# Altium integrated library TI Data Converters Digital to Analog Converter.IntLib: 1533 symbols (part 21 of 99)
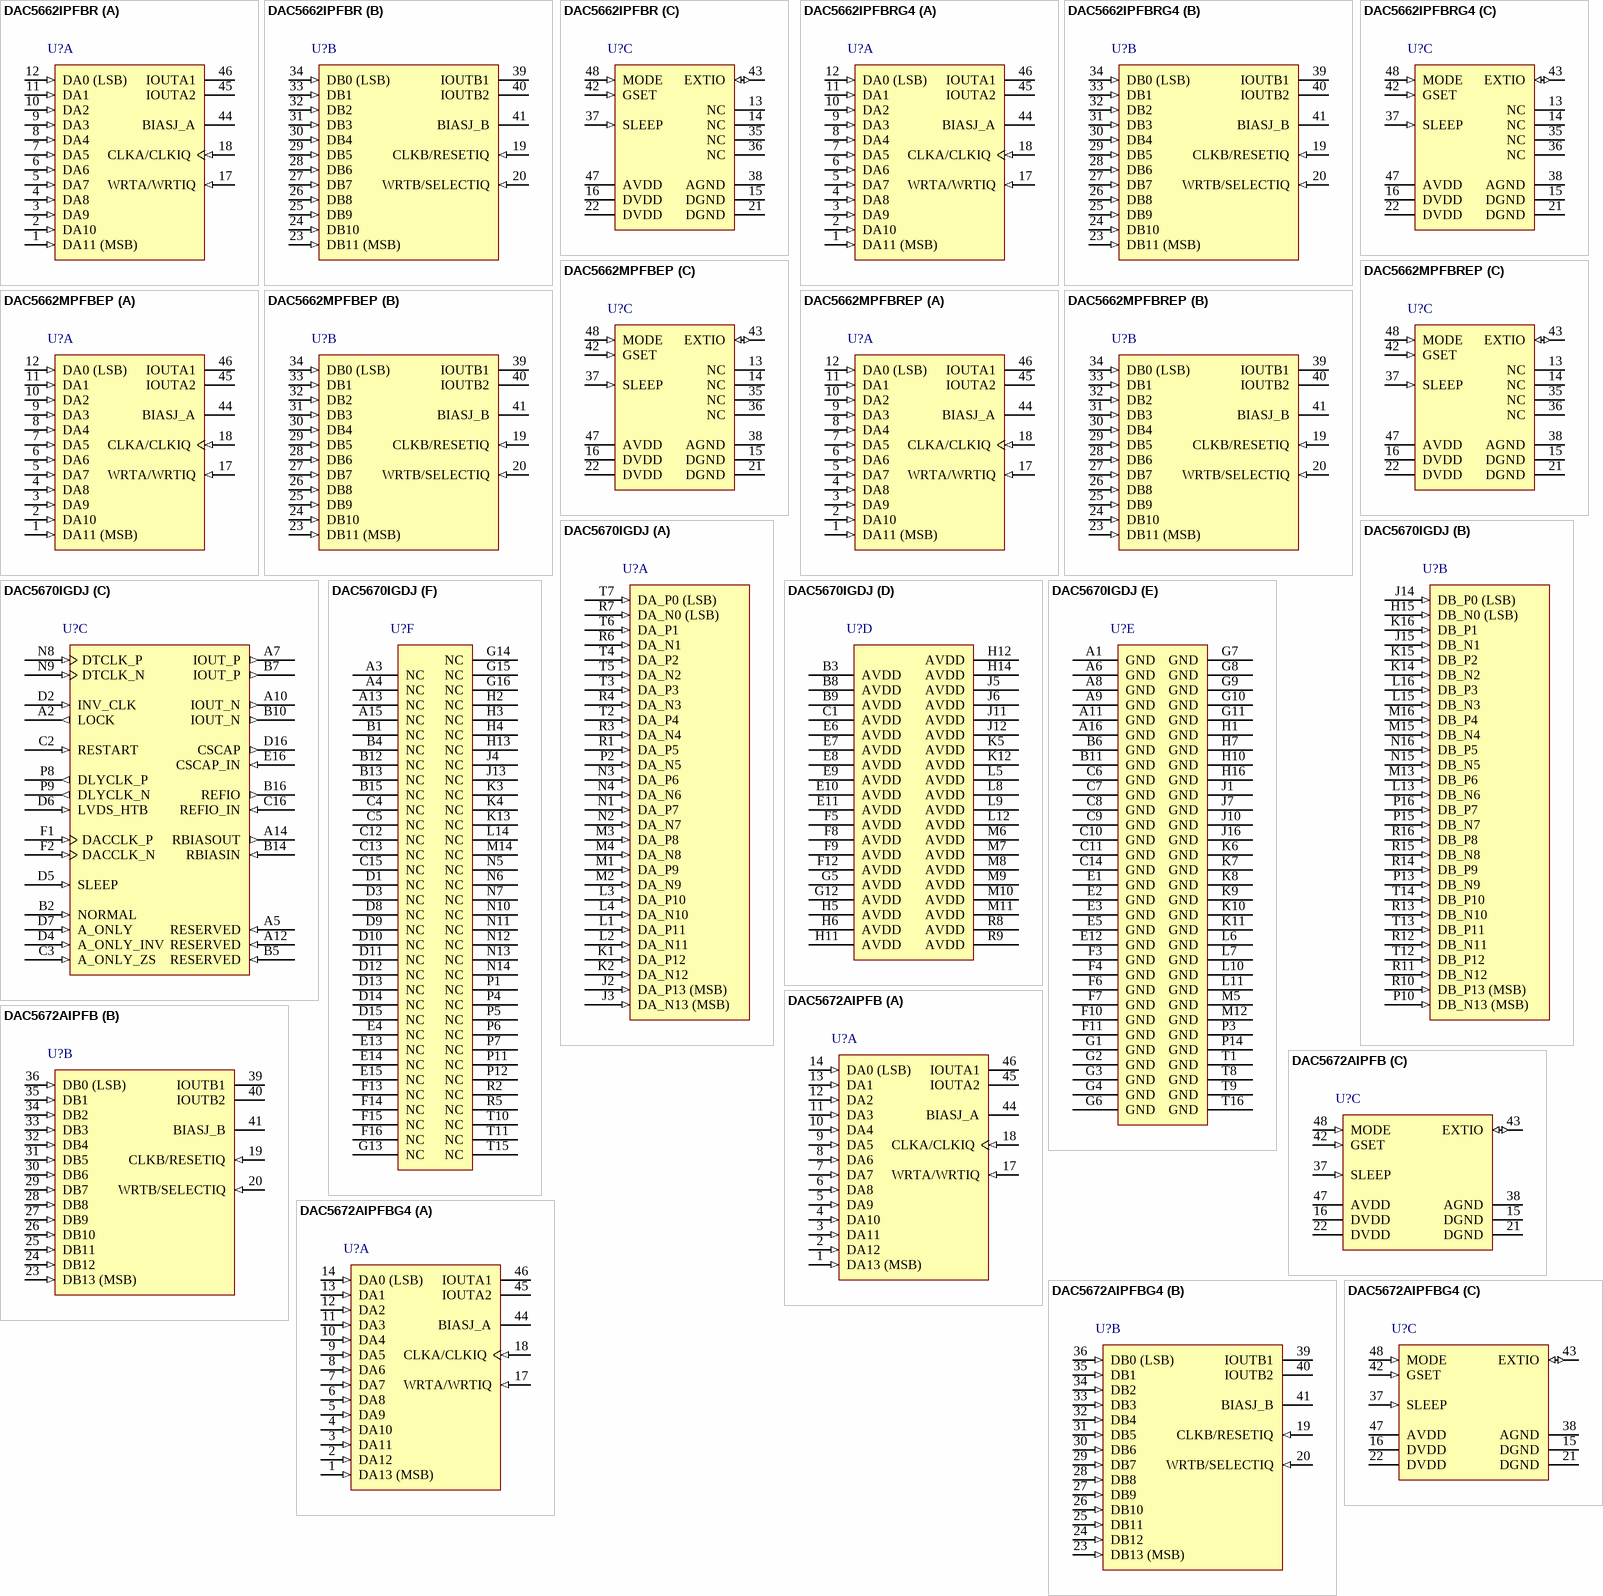
[diagram p93: symbols DAC5662IPFBR to DAC5672AIPFBG4]

## DAC5662MPFBEP
designator U?
Enhanced Product 12-Bit 200-MSPS Dual DAC, -55 to 125 degC, 48-pin QFP (PFB48), Green (RoHS & no Sb/Br); Manufacturer: Texas Instruments; PartNumber: DAC5662MPFBEP; DAC Channels: 2; Interface: Parallel CMOS; Power Consumption(Typ)(mW): 330; Resolution(Bits): 12; Settling Time(us): 0.02; SFDR(dB): 81; SNR(dB): 73; SubFamily: High Speed DAC (>10MSPS); DatasheetVersion: SGLS340A; PackageVersion: 4073176/B, 10/1996; PackageReference: PFB48; PackageDescription: 48-Pin Plastic Flat Pack, Body 7 x 7 mm, Pitch 0.5 mm; Supplier 1: Digi-Key; Supplier Part Number 1: 296-22559-ND; Supplier 2: Newark; Supplier Part Number 2: 79R7931; Supplier 3: Mouser; Supplier Part Number 3: 595-DAC5662MPFBEP; DNL(Max)(+/-LSB): 2; Eco-Plan: Green (RoHS & no Sb/Br); INL(Max)(+/-LSB): 2; Mounting Technology: Surface Mount; Code_JEDEC: MS-026; ComponentLink1Description: Manufacturer URL; ComponentLink1URL: http://www.ti.com/; ComponentLink2Description: Datasheet; ComponentLink2URL: http://www.ti.com/general/docs/lit/getliterature.tsp?genericPartNumber=DAC5662-EP&fileType=pdf; ComponentLink3Description: Package Specification; ComponentLink3URL: http://www.ti.com/lit/ml/mtqf019a/mtqf019a.pdf
footprint TI-PFB48_N (QFP, 48-Leads, Body 7x7mm, Pitch 0.5mm, IPC Medium Density)
footprint TI-PFB48_L (QFP, 48-Leads, Body 7x7mm, Pitch 0.5mm, IPC High Density)
footprint TI-PFB48_M (QFP, 48-Leads, Body 7x7mm, Pitch 0.5mm, IPC Low Density)
part A pins: 1 DA11 (MSB) (in) "Data port A. DA11 is MSB and DA0 is LSB. Internal pulldown.", 2 DA10 (in) "Data port A. DA11 is MSB and DA0 is LSB. Internal pulldown.", 3 DA9 (in) "Data port A. DA11 is MSB and DA0 is LSB. Internal pulldown.", 4 DA8 (in) "Data port A. DA11 is MSB and DA0 is LSB. Internal pulldown.", 5 DA7 (in) "Data port A. DA11 is MSB and DA0 is LSB. Internal pulldown.", 6 DA6 (in) "Data port A. DA11 is MSB and DA0 is LSB. Internal pulldown.", 7 DA5 (in) "Data port A. DA11 is MSB and DA0 is LSB. Internal pulldown.", 8 DA4 (in) "Data port A. DA11 is MSB and DA0 is LSB. Internal pulldown.", 9 DA3 (in) "Data port A. DA11 is MSB and DA0 is LSB. Internal pulldown.", 10 DA2 (in) "Data port A. DA11 is MSB and DA0 is LSB. Internal pulldown.", 11 DA1 (in) "Data port A. DA11 is MSB and DA0 is LSB. Internal pulldown.", 12 DA0 (LSB) (in) "Data port A. DA11 is MSB and DA0 is LSB. Internal pulldown.", 17 WRTA/WRTIQ (in) "Input write signal for PORT A (WRTIQ in interleaving mode)", 18 CLKA/CLKIQ (in) "Clock input for DACA, CLKIQ in interleaved mode", 44 BIASJ_A "Full-scale output current bias for DACA", 45 IOUTA2 (hiz) "DACA complementary current output. Full-scale with all bits of DA low.", 46 IOUTA1 (hiz) "DACA current output. Full-scale with all bits of DA high."
part B pins: 19 CLKB/RESETIQ (in) "Clock input for DACB, RESETIQ in interleaved mode", 20 WRTB/SELECTIQ (in) "Input write signal for PORT B (SELECTIQ in interleaving mode)", 23 DB11 (MSB) (in) "Data port B. DB11 is MSB and DB0 is LSB. Internal pulldown.", 24 DB10 (in) "Data port B. DB11 is MSB and DB0 is LSB. Internal pulldown.", 25 DB9 (in) "Data port B. DB11 is MSB and DB0 is LSB. Internal pulldown.", 26 DB8 (in) "Data port B. DB11 is MSB and DB0 is LSB. Internal pulldown.", 27 DB7 (in) "Data port B. DB11 is MSB and DB0 is LSB. Internal pulldown.", 28 DB6 (in) "Data port B. DB11 is MSB and DB0 is LSB. Internal pulldown.", 29 DB5 (in) "Data port B. DB11 is MSB and DB0 is LSB. Internal pulldown.", 30 DB4 (in) "Data port B. DB11 is MSB and DB0 is LSB. Internal pulldown.", 31 DB3 (in) "Data port B. DB11 is MSB and DB0 is LSB. Internal pulldown.", 32 DB2 (in) "Data port B. DB11 is MSB and DB0 is LSB. Internal pulldown.", 33 DB1 (in) "Data port B. DB11 is MSB and DB0 is LSB. Internal pulldown.", 34 DB0 (LSB) (in) "Data port B. DB11 is MSB and DB0 is LSB. Internal pulldown.", 39 IOUTB1 (hiz) "DACB current output. Full-scale with all bits of DB high.", 40 IOUTB2 (hiz) "DACB complementary current output. Full-scale with all bits of DB low.", 41 BIASJ_B "Full-scale output current bias for DACB"
part C pins: 13 NC "Factory use only. Pins must be connected to DGND or left unconnected.", 14 NC "Factory use only. Pins must be connected to DGND or left unconnected.", 15 DGND (power) "Digital ground", 16 DVDD (power) "Digital supply voltage", 21 DGND (power) "Digital ground", 22 DVDD (power) "Digital supply voltage", 35 NC "Factory use only. Pins must be connected to DGND or left unconnected.", 36 NC "Factory use only. Pins must be connected to DGND or left unconnected.", 37 SLEEP (in) "Sleep function control input: H - DAC in power-down mode, L - DAC in operating mode. Internal pulldown.", 38 AGND (power) "Analog ground", 42 GSET (in) "Gain-setting mode: H - 1 resistor, L - 2 resistors. Internal pullup.", 43 EXTIO (io) "Internal reference output (bypass with 0.1 uF to AGND) or external reference input", 47 AVDD (power) "Analog supply voltage", 48 MODE (in) "Mode Select: H - Dual Bus, L - Interleaved. Internal pullup."

## DAC5662MPFBREP
designator U?
Enhanced Product 12-Bit 200-MSPS Dual DAC, -55 to 125 degC, 48-pin QFP (PFB48), Green (RoHS & no Sb/Br); Manufacturer: Texas Instruments; PartNumber: DAC5662MPFBREP; DAC Channels: 2; Interface: Parallel CMOS; Power Consumption(Typ)(mW): 330; Resolution(Bits): 12; Settling Time(us): 0.02; SFDR(dB): 81; SNR(dB): 73; SubFamily: High Speed DAC (>10MSPS); DatasheetVersion: SGLS340A; PackageVersion: 4073176/B, 10/1996; PackageReference: PFB48; PackageDescription: 48-Pin Plastic Flat Pack, Body 7 x 7 mm, Pitch 0.5 mm; Supplier 1: Digi-Key; Supplier Part Number 1: 296-21304-2-ND; Supplier 2: Digi-Key; Supplier Part Number 2: 296-21304-1-ND; Supplier 3: Digi-Key; Supplier Part Number 3: 296-21304-6-ND; Supplier 4: Newark; Supplier Part Number 4: 79R7932; Supplier 5: Mouser; Supplier Part Number 5: 595-DAC5662MPFBREP; DNL(Max)(+/-LSB): 2; Eco-Plan: Green (RoHS & no Sb/Br); INL(Max)(+/-LSB): 2; Mounting Technology: Surface Mount; Code_JEDEC: MS-026; ComponentLink1Description: Manufacturer URL; ComponentLink1URL: http://www.ti.com/; ComponentLink2Description: Datasheet; ComponentLink2URL: http://www.ti.com/general/docs/lit/getliterature.tsp?genericPartNumber=DAC5662-EP&fileType=pdf; ComponentLink3Description: Package Specification; ComponentLink3URL: http://www.ti.com/lit/ml/mtqf019a/mtqf019a.pdf
footprint TI-PFB48_N (QFP, 48-Leads, Body 7x7mm, Pitch 0.5mm, IPC Medium Density)
footprint TI-PFB48_L (QFP, 48-Leads, Body 7x7mm, Pitch 0.5mm, IPC High Density)
footprint TI-PFB48_M (QFP, 48-Leads, Body 7x7mm, Pitch 0.5mm, IPC Low Density)
part A pins: 1 DA11 (MSB) (in) "Data port A. DA11 is MSB and DA0 is LSB. Internal pulldown.", 2 DA10 (in) "Data port A. DA11 is MSB and DA0 is LSB. Internal pulldown.", 3 DA9 (in) "Data port A. DA11 is MSB and DA0 is LSB. Internal pulldown.", 4 DA8 (in) "Data port A. DA11 is MSB and DA0 is LSB. Internal pulldown.", 5 DA7 (in) "Data port A. DA11 is MSB and DA0 is LSB. Internal pulldown.", 6 DA6 (in) "Data port A. DA11 is MSB and DA0 is LSB. Internal pulldown.", 7 DA5 (in) "Data port A. DA11 is MSB and DA0 is LSB. Internal pulldown.", 8 DA4 (in) "Data port A. DA11 is MSB and DA0 is LSB. Internal pulldown.", 9 DA3 (in) "Data port A. DA11 is MSB and DA0 is LSB. Internal pulldown.", 10 DA2 (in) "Data port A. DA11 is MSB and DA0 is LSB. Internal pulldown.", 11 DA1 (in) "Data port A. DA11 is MSB and DA0 is LSB. Internal pulldown.", 12 DA0 (LSB) (in) "Data port A. DA11 is MSB and DA0 is LSB. Internal pulldown.", 17 WRTA/WRTIQ (in) "Input write signal for PORT A (WRTIQ in interleaving mode)", 18 CLKA/CLKIQ (in) "Clock input for DACA, CLKIQ in interleaved mode", 44 BIASJ_A "Full-scale output current bias for DACA", 45 IOUTA2 (hiz) "DACA complementary current output. Full-scale with all bits of DA low.", 46 IOUTA1 (hiz) "DACA current output. Full-scale with all bits of DA high."
part B pins: 19 CLKB/RESETIQ (in) "Clock input for DACB, RESETIQ in interleaved mode", 20 WRTB/SELECTIQ (in) "Input write signal for PORT B (SELECTIQ in interleaving mode)", 23 DB11 (MSB) (in) "Data port B. DB11 is MSB and DB0 is LSB. Internal pulldown.", 24 DB10 (in) "Data port B. DB11 is MSB and DB0 is LSB. Internal pulldown.", 25 DB9 (in) "Data port B. DB11 is MSB and DB0 is LSB. Internal pulldown.", 26 DB8 (in) "Data port B. DB11 is MSB and DB0 is LSB. Internal pulldown.", 27 DB7 (in) "Data port B. DB11 is MSB and DB0 is LSB. Internal pulldown.", 28 DB6 (in) "Data port B. DB11 is MSB and DB0 is LSB. Internal pulldown.", 29 DB5 (in) "Data port B. DB11 is MSB and DB0 is LSB. Internal pulldown.", 30 DB4 (in) "Data port B. DB11 is MSB and DB0 is LSB. Internal pulldown.", 31 DB3 (in) "Data port B. DB11 is MSB and DB0 is LSB. Internal pulldown.", 32 DB2 (in) "Data port B. DB11 is MSB and DB0 is LSB. Internal pulldown.", 33 DB1 (in) "Data port B. DB11 is MSB and DB0 is LSB. Internal pulldown.", 34 DB0 (LSB) (in) "Data port B. DB11 is MSB and DB0 is LSB. Internal pulldown.", 39 IOUTB1 (hiz) "DACB current output. Full-scale with all bits of DB high.", 40 IOUTB2 (hiz) "DACB complementary current output. Full-scale with all bits of DB low.", 41 BIASJ_B "Full-scale output current bias for DACB"
part C pins: 13 NC "Factory use only. Pins must be connected to DGND or left unconnected.", 14 NC "Factory use only. Pins must be connected to DGND or left unconnected.", 15 DGND (power) "Digital ground", 16 DVDD (power) "Digital supply voltage", 21 DGND (power) "Digital ground", 22 DVDD (power) "Digital supply voltage", 35 NC "Factory use only. Pins must be connected to DGND or left unconnected.", 36 NC "Factory use only. Pins must be connected to DGND or left unconnected.", 37 SLEEP (in) "Sleep function control input: H - DAC in power-down mode, L - DAC in operating mode. Internal pulldown.", 38 AGND (power) "Analog ground", 42 GSET (in) "Gain-setting mode: H - 1 resistor, L - 2 resistors. Internal pullup.", 43 EXTIO (io) "Internal reference output (bypass with 0.1 uF to AGND) or external reference input", 47 AVDD (power) "Analog supply voltage", 48 MODE (in) "Mode Select: H - Dual Bus, L - Interleaved. Internal pullup."

## DAC5670IGDJ
designator U?
14-Bit, 2.4 GSPS Digital-to-Analog Convert, -40 to 85 degC, 252-pin BGA (GDJ252); Manufacturer: Texas Instruments; PartNumber: DAC5670IGDJ; DAC Channels: 1; DNL(Max)(+/-LSB): 1.75; Eco-Plan: Green (RoHS & no Sb/Br); INL(Max)(+/-LSB): 7.5; Packing: JEDEC TRAY (5+1); Power Consumption(Typ)(mW): 1800; Resolution(Bits): 14; Settling Time(us): 0.0035; SFDR(dB): 55; SNR(dB): 70; SubFamily: High Speed DAC (>10MSPS); DatasheetVersion: SGLS394E; PackageVersion: 4203479/C, 10/2003; PackageReference: GDJ252; PackageDescription: 252-Pin Plastic Ball Grid Array, Body 17 x 17 mm, Pitch 1 mm; Supplier 1: Digi-Key; Supplier Part Number 1: DAC5670IGDJ-ND; Supplier 2: Newark; Supplier Part Number 2: 72R5215; Supplier 3: Mouser; Supplier Part Number 3: 595-DAC5670IGDJ; Mounting Technology: Surface Mount; ComponentLink1Description: Manufacturer URL; ComponentLink1URL: http://www.ti.com/; ComponentLink2Description: Datasheet; ComponentLink2URL: http://www.ti.com/lit/ds/symlink/dac5670.pdf; ComponentLink3Description: Package Specification; ComponentLink3URL: http://www.ti.com/litv/pdf/mpbg222b
footprint TI-GDJ252 (BGA, 252-Balls, Body 17x17mm, Pitch 1mm)
part A pins: J2 DA_P13 (MSB) (in) "Port A data bit 13 (MSB)", J3 DA_N13 (MSB) (in) "Port A data bit 13 complement (MSB)", K1 DA_P12 (in) "Port A data bit 12", K2 DA_N12 (in) "Port A data bit 12 complement", L1 DA_P11 (in) "Port A data bit 11", L2 DA_N11 (in) "Port A data bit 11 complement", L3 DA_P10 (in) "Port A data bit 10", L4 DA_N10 (in) "Port A data bit 10 complement", M1 DA_P9 (in) "Port A data bit 9", M2 DA_N9 (in) "Port A data bit 9 complement", M3 DA_P8 (in) "Port A data bit 8", M4 DA_N8 (in) "Port A data bit 8 complement", N1 DA_P7 (in) "Port A data bit 7", N2 DA_N7 (in) "Port A data bit 7 complement", N3 DA_P6 (in) "Port A data bit 6", N4 DA_N6 (in) "Port A data bit 6 complement", P2 DA_N5 (in) "Port A data bit 5 complement", R1 DA_P5 (in) "Port A data bit 5", R3 DA_N4 (in) "Port A data bit 4 complement", R4 DA_N3 (in) "Port A data bit 3 complement", R6 DA_N1 (in) "Port A data bit 1 complement", R7 DA_N0 (LSB) (in) "Port A data bit 0 complement (LSB)", T2 DA_P4 (in) "Port A data bit 4", T3 DA_P3 (in) "Port A data bit 3", T4 DA_P2 (in) "Port A data bit 2", T5 DA_N2 (in) "Port A data bit 2 complement", T6 DA_P1 (in) "Port A data bit 1", T7 DA_P0 (LSB) (in) "Port A data bit 0 (LSB)"
part B pins: H15 DB_N0 (LSB) (in) "Port B data bit 0 complement (LSB)", J14 DB_P0 (LSB) (in) "Port B data bit 0 (LSB)", J15 DB_N1 (in) "Port B data bit 1 complement", K14 DB_N2 (in) "Port B data bit 2 complement", K15 DB_P2 (in) "Port B data bit 2", K16 DB_P1 (in) "Port B data bit 1", L13 DB_N6 (in) "Port B data bit 6 complement", L15 DB_N3 (in) "Port B data bit 3 complement", L16 DB_P3 (in) "Port B data bit 3", M13 DB_P6 (in) "Port B data bit 6", M15 DB_N4 (in) "Port B data bit 4 complement", M16 DB_P4 (in) "Port B data bit 4", N15 DB_N5 (in) "Port B data bit 5 complement", N16 DB_P5 (in) "Port B data bit 5", P10 DB_N13 (MSB) (in) "Port B data bit 13 complement (MSB)", P13 DB_N9 (in) "Port B data bit 9 complement", P15 DB_N7 (in) "Port B data bit 7 complement", P16 DB_P7 (in) "Port B data bit 7", R10 DB_P13 (MSB) (in) "Port B data bit 13 (MSB)", R11 DB_N12 (in) "Port B data bit 12 complement", R12 DB_N11 (in) "Port B data bit 11 complement", R13 DB_N10 (in) "Port B data bit 10 complement", R14 DB_P9 (in) "Port B data bit 9", R15 DB_N8 (in) "Port B data bit 8 complement", R16 DB_P8 (in) "Port B data bit 8", T12 DB_P12 (in) "Port B data bit 12", T13 DB_P11 (in) "Port B data bit 11", T14 DB_P10 (in) "Port B data bit 10"
part C pins: A2 LOCK (out) "DLL lock indicator, constant high when locked.", A5 RESERVED (in) "Factory use only, must be connected to GND.", A7 IOUT_P (out) "DAC current output. Full scale when all input bits are set 1.", A10 IOUT_N (out) "DAC complementary current output. Full scale when all input bits are 0.", A12 RESERVED (in) "Factory use only, must be connected to GND.", A14 RBIASOUT (out) "Rbias resistor current output", B2 NORMAL (in) "High for {a0,b0,a1,b1,a2,b2, …} normal mode", B5 RESERVED (in) "Factory use only, must be connected to GND.", B7 IOUT_P (out) "DAC current output. Full scale when all input bits are set 1.", B10 IOUT_N (out) "DAC complementary current output. Full scale when all input bits are 0.", B14 RBIASIN (in) "Rbias resistor sense input", B16 REFIO (out) "Bandgap reference output", C2 RESTART (in) "Resets DLL when high. Low for DLL operation. High for using external setup/hold timing.", C3 A_ONLY_ZS (in) "High for {a0,0,a1,0,a2,0, …} A_only_zs mode", C16 REFIO_IN (in) "Bandgap reference sense input", D2 INV_CLK (in) "Inverts the DLL target clocking relationship when high. Low for normal DLL operation. See DLL usage section.", D4 A_ONLY_INV (in) "High for {a0,-a0, a1,-a1,a2,-a2, ...} A_only_inv mode", D5 SLEEP (in) "Active high sleep.", D6 LVDS_HTB (in) "DLYCLK_P/N control; lvds mode when high, ht mode when low.", D7 A_ONLY (in) "High for {a0,a0,a1,a1,a2,a2, …} A_only mode", D16 CSCAP (out) "Current source bias voltage output", E16 CSCAP_IN (in) "Current source bias voltage sense input", F1 DACCLK_P (in) "External clock input; sample clock for the DAC", F2 DACCLK_N (in) "Complementary external clock input; sample clock for the DAC", N8 DTCLK_P (in) "Input data toggling reference bit", N9 DTCLK_N (in) "Input data toggling reference bit complementary signal", P8 DLYCLK_P (out) "DDR type data clock output to data source", P9 DLYCLK_N (out) "DDR type data clock output to data source complementary signal"
part D pins: B3 AVDD (power) "3.3 V Analog power supply", B8 AVDD (power) "3.3 V Analog power supply", B9 AVDD (power) "3.3 V Analog power supply", C1 AVDD (power) "3.3 V Analog power supply", E6 AVDD (power) "3.3 V Analog power supply", E7 AVDD (power) "3.3 V Analog power supply", E8 AVDD (power) "3.3 V Analog power supply", E9 AVDD (power) "3.3 V Analog power supply", E10 AVDD (power) "3.3 V Analog power supply", E11 AVDD (power) "3.3 V Analog power supply", F5 AVDD (power) "3.3 V Analog power supply", F8 AVDD (power) "3.3 V Analog power supply", F9 AVDD (power) "3.3 V Analog power supply", F12 AVDD (power) "3.3 V Analog power supply", G5 AVDD (power) "3.3 V Analog power supply", G12 AVDD (power) "3.3 V Analog power supply", H5 AVDD (power) "3.3 V Analog power supply", H6 AVDD (power) "3.3 V Analog power supply", H11 AVDD (power) "3.3 V Analog power supply", H12 AVDD (power) "3.3 V Analog power supply", H14 AVDD (power) "3.3 V Analog power supply", J5 AVDD (power) "3.3 V Analog power supply", J6 AVDD (power) "3.3 V Analog power supply", J11 AVDD (power) "3.3 V Analog power supply", J12 AVDD (power) "3.3 V Analog power supply", K5 AVDD (power) "3.3 V Analog power supply", K12 AVDD (power) "3.3 V Analog power supply", L5 AVDD (power) "3.3 V Analog power supply", L8 AVDD (power) "3.3 V Analog power supply", L9 AVDD (power) "3.3 V Analog power supply", L12 AVDD (power) "3.3 V Analog power supply", M6 AVDD (power) "3.3 V Analog power supply", M7 AVDD (power) "3.3 V Analog power supply", M8 AVDD (power) "3.3 V Analog power supply", M9 AVDD (power) "3.3 V Analog power supply", M10 AVDD (power) "3.3 V Analog power supply", M11 AVDD (power) "3.3 V Analog power supply", R8 AVDD (power) "3.3 V Analog power supply", R9 AVDD (power) "3.3 V Analog power supply"
part E pins: A1 GND (power) "Ground", A6 GND (power) "Ground", A8 GND (power) "Ground", A9 GND (power) "Ground", A11 GND (power) "Ground", A16 GND (power) "Ground", B6 GND (power) "Ground", B11 GND (power) "Ground", C6 GND (power) "Ground", C7 GND (power) "Ground", C8 GND (power) "Ground", C9 GND (power) "Ground", C10 GND (power) "Ground", C11 GND (power) "Ground", C14 GND (power) "Ground", E1 GND (power) "Ground", E2 GND (power) "Ground", E3 GND (power) "Ground", E5 GND (power) "Ground", E12 GND (power) "Ground", F3 GND (power) "Ground", F4 GND (power) "Ground", F6 GND (power) "Ground", F7 GND (power) "Ground", F10 GND (power) "Ground", F11 GND (power) "Ground", G1 GND (power) "Ground", G2 GND (power) "Ground", G3 GND (power) "Ground", G4 GND (power) "Ground", G6 GND (power) "Ground", G7 GND (power) "Ground", G8 GND (power) "Ground", G9 GND (power) "Ground", G10 GND (power) "Ground", G11 GND (power) "Ground", H1 GND (power) "Ground", H7 GND (power) "Ground", H10 GND (power) "Ground", H16 GND (power) "Ground", J1 GND (power) "Ground", J7 GND (power) "Ground", J10 GND (power) "Ground", J16 GND (power) "Ground", K6 GND (power) "Ground", K7 GND (power) "Ground", K8 GND (power) "Ground", K9 GND (power) "Ground", K10 GND (power) "Ground", K11 GND (power) "Ground", L6 GND (power) "Ground", L7 GND (power) "Ground", L10 GND (power) "Ground", L11 GND (power) "Ground", M5 GND (power) "Ground", M12 GND (power) "Ground", P3 GND (power) "Ground", P14 GND (power) "Ground", T1 GND (power) "Ground", T8 GND (power) "Ground", T9 GND (power) "Ground", T16 GND (power) "Ground"
part F pins: A3 NC "No internal connection. These balls can be connected to GND (if desired), or left open.", A4 NC "No internal connection. These balls can be connected to GND (if desired), or left open.", A13 NC "No internal connection. These balls can be connected to GND (if desired), or left open.", A15 NC "No internal connection. These balls can be connected to GND (if desired), or left open.", B1 NC "No internal connection. These balls can be connected to GND (if desired), or left open.", B4 NC "No internal connection. These balls can be connected to GND (if desired), or left open.", B12 NC "Factory use only, must be left unconnected.", B13 NC "No internal connection. These balls can be connected to GND (if desired), or left open.", B15 NC "No internal connection. These balls can be connected to GND (if desired), or left open.", C4 NC "No internal connection. These balls can be connected to GND (if desired), or left open.", C5 NC "Factory use only, must be left unconnected.", C12 NC "No internal connection. These balls can be connected to GND (if desired), or left open.", C13 NC "No internal connection. These balls can be connected to GND (if desired), or left open.", C15 NC "No internal connection. These balls can be connected to GND (if desired), or left open.", D1 NC "Factory use only, must be left unconnected.", D3 NC "No internal connection. These balls can be connected to GND (if desired), or left open.", D8 NC "No internal connection. These balls can be connected to GND (if desired), or left open.", D9 NC "No internal connection. These balls can be connected to GND (if desired), or left open.", D10 NC "No internal connection. These balls can be connected to GND (if desired), or left open.", D11 NC "No internal connection. These balls can be connected to GND (if desired), or left open.", D12 NC "No internal connection. These balls can be connected to GND (if desired), or left open.", D13 NC "No internal connection. These balls can be connected to GND (if desired), or left open.", D14 NC "No internal connection. These balls can be connected to GND (if desired), or left open.", D15 NC "No internal connection. These balls can be connected to GND (if desired), or left open.", E4 NC "No internal connection. These balls can be connected to GND (if desired), or left open.", E13 NC "No internal connection. These balls can be connected to GND (if desired), or left open.", E14 NC "No internal connection. These balls can be connected to GND (if desired), or left open.", E15 NC "No internal connection. These balls can be connected to GND (if desired), or left open.", F13 NC "No internal connection. These balls can be connected to GND (if desired), or left open.", F14 NC "No internal connection. These balls can be connected to GND (if desired), or left open.", F15 NC "No internal connection. These balls can be connected to GND (if desired), or left open.", F16 NC "No internal connection. These balls can be connected to GND (if desired), or left open.", G13 NC "No internal connection. These balls can be connected to GND (if desired), or left open.", G14 NC "No internal connection. These balls can be connected to GND (if desired), or left open.", G15 NC "No internal connection. These balls can be connected to GND (if desired), or left open.", G16 NC "No internal connection. These balls can be connected to GND (if desired), or left open.", H2 NC "No internal connection. These balls can be connected to GND (if desired), or left open.", H3 NC "No internal connection. These balls can be connected to GND (if desired), or left open.", H4 NC "No internal connection. These balls can be connected to GND (if desired), or left open.", H13 NC "No internal connection. These balls can be connected to GND (if desired), or left open.", J4 NC "No internal connection. These balls can be connected to GND (if desired), or left open.", J13 NC "No internal connection. These balls can be connected to GND (if desired), or left open.", K3 NC "No internal connection. These balls can be connected to GND (if desired), or left open.", K4 NC "No internal connection. These balls can be connected to GND (if desired), or left open.", K13 NC "No internal connection. These balls can be connected to GND (if desired), or left open.", L14 NC "No internal connection. These balls can be connected to GND (if desired), or left open.", M14 NC "No internal connection. These balls can be connected to GND (if desired), or left open.", N5 NC "No internal connection. These balls can be connected to GND (if desired), or left open.", N6 NC "No internal connection. These balls can be connected to GND (if desired), or left open.", N7 NC "No internal connection. These balls can be connected to GND (if desired), or left open.", N10 NC "No internal connection. These balls can be connected to GND (if desired), or left open.", N11 NC "No internal connection. These balls can be connected to GND (if desired), or left open.", N12 NC "No internal connection. These balls can be connected to GND (if desired), or left open.", N13 NC "No internal connection. These balls can be connected to GND (if desired), or left open.", N14 NC "No internal connection. These balls can be connected to GND (if desired), or left open.", P1 NC "No internal connection. These balls can be connected to GND (if desired), or left open.", P4 NC "No internal connection. These balls can be connected to GND (if desired), or left open.", P5 NC "No internal connection. These balls can be connected to GND (if desired), or left open.", P6 NC "No internal connection. These balls can be connected to GND (if desired), or left open.", P7 NC "No internal connection. These balls can be connected to GND (if desired), or left open.", P11 NC "No internal connection. These balls can be connected to GND (if desired), or left open.", P12 NC "No internal connection. These balls can be connected to GND (if desired), or left open.", R2 NC "No internal connection. These balls can be connected to GND (if desired), or left open.", R5 NC "No internal connection. These balls can be connected to GND (if desired), or left open.", T10 NC "No internal connection. These balls can be connected to GND (if desired), or left open.", T11 NC "No internal connection. These balls can be connected to GND (if desired), or left open.", T15 NC "No internal connection. These balls can be connected to GND (if desired), or left open."

## DAC5672AIPFB
designator U?
14-Bit 275 MSPS Dual Digital to Analog Converter, -40 to 85 degC, 48-pin QFP (PFB48), Green (RoHS & no Sb/Br); Manufacturer: Texas Instruments; PartNumber: DAC5672AIPFB; DAC Channels: 2; DNL(Max)(+/-LSB): 3; INL(Max)(+/-LSB): 4; Interface: Parallel CMOS; Power Consumption(Typ)(mW): 330; Resolution(Bits): 14; Settling Time(us): 0.02; SFDR(dB): 84; SNR(dB): 77; SubFamily: High Speed DAC (>10MSPS); DatasheetVersion: SLAS528A; PackageVersion: 4073176/B, 10/1996; PackageReference: PFB48; PackageDescription: 48-Pin Plastic Flat Pack, Body 7 x 7 mm, Pitch 0.5 mm; Supplier 1: Digi-Key; Supplier Part Number 1: 296-22616-ND; Supplier 2: Newark; Supplier Part Number 2: 58M0323; Supplier 3: Mouser; Supplier Part Number 3: 595-DAC5672AIPFB; Eco-Plan: Green (RoHS & no Sb/Br); Mounting Technology: Surface Mount; Code_JEDEC: MS-026; ComponentLink1Description: Manufacturer URL; ComponentLink1URL: http://www.ti.com/; ComponentLink2Description: Datasheet; ComponentLink2URL: http://www.ti.com/general/docs/lit/getliterature.tsp?genericPartNumber=DAC5672A&fileType=pdf; ComponentLink3Description: Package Specification; ComponentLink3URL: http://www.ti.com/lit/ml/mtqf019a/mtqf019a.pdf
footprint TI-PFB48_N (QFP, 48-Leads, Body 7x7mm, Pitch 0.5mm, IPC Medium Density)
footprint TI-PFB48_L (QFP, 48-Leads, Body 7x7mm, Pitch 0.5mm, IPC High Density)
footprint TI-PFB48_M (QFP, 48-Leads, Body 7x7mm, Pitch 0.5mm, IPC Low Density)
part A pins: 1 DA13 (MSB) (in) "Data port A. DA13 is MSB and DA0 is LSB. Internal pulldown.", 2 DA12 (in) "Data port A. DA13 is MSB and DA0 is LSB. Internal pulldown.", 3 DA11 (in) "Data port A. DA13 is MSB and DA0 is LSB. Internal pulldown.", 4 DA10 (in) "Data port A. DA13 is MSB and DA0 is LSB. Internal pulldown.", 5 DA9 (in) "Data port A. DA13 is MSB and DA0 is LSB. Internal pulldown.", 6 DA8 (in) "Data port A. DA13 is MSB and DA0 is LSB. Internal pulldown.", 7 DA7 (in) "Data port A. DA13 is MSB and DA0 is LSB. Internal pulldown.", 8 DA6 (in) "Data port A. DA13 is MSB and DA0 is LSB. Internal pulldown.", 9 DA5 (in) "Data port A. DA13 is MSB and DA0 is LSB. Internal pulldown.", 10 DA4 (in) "Data port A. DA13 is MSB and DA0 is LSB. Internal pulldown.", 11 DA3 (in) "Data port A. DA13 is MSB and DA0 is LSB. Internal pulldown.", 12 DA2 (in) "Data port A. DA13 is MSB and DA0 is LSB. Internal pulldown.", 13 DA1 (in) "Data port A. DA13 is MSB and DA0 is LSB. Internal pulldown.", 14 DA0 (LSB) (in) "Data port A. DA13 is MSB and DA0 is LSB. Internal pulldown.", 17 WRTA/WRTIQ (in) "Input write signal for PORT A (WRTIQ in interleaving mode)", 18 CLKA/CLKIQ (in) "Clock input for DACA, CLKIQ in interleaved mode", 44 BIASJ_A "Full-scale output current bias for DACA", 45 IOUTA2 (hiz) "DACA complementary current output. Full-scale with all bits of DA low.", 46 IOUTA1 (hiz) "DACA current output. Full-scale with all bits of DA high."
part B pins: 19 CLKB/RESETIQ (in) "Clock input for DACB, RESETIQ in interleaved mode", 20 WRTB/SELECTIQ (in) "Input write signal for PORT B (SELECTIQ in interleaving mode)", 23 DB13 (MSB) (in) "Data port B. DB13 is MSB and DB0 is LSB. Internal pulldown.", 24 DB12 (in) "Data port B. DB13 is MSB and DB0 is LSB. Internal pulldown.", 25 DB11 (in) "Data port B. DB13 is MSB and DB0 is LSB. Internal pulldown.", 26 DB10 (in) "Data port B. DB13 is MSB and DB0 is LSB. Internal pulldown.", 27 DB9 (in) "Data port B. DB13 is MSB and DB0 is LSB. Internal pulldown.", 28 DB8 (in) "Data port B. DB13 is MSB and DB0 is LSB. Internal pulldown.", 29 DB7 (in) "Data port B. DB13 is MSB and DB0 is LSB. Internal pulldown.", 30 DB6 (in) "Data port B. DB13 is MSB and DB0 is LSB. Internal pulldown.", 31 DB5 (in) "Data port B. DB13 is MSB and DB0 is LSB. Internal pulldown.", 32 DB4 (in) "Data port B. DB13 is MSB and DB0 is LSB. Internal pulldown.", 33 DB3 (in) "Data port B. DB13 is MSB and DB0 is LSB. Internal pulldown.", 34 DB2 (in) "Data port B. DB13 is MSB and DB0 is LSB. Internal pulldown.", 35 DB1 (in) "Data port B. DB13 is MSB and DB0 is LSB. Internal pulldown.", 36 DB0 (LSB) (in) "Data port B. DB13 is MSB and DB0 is LSB. Internal pulldown.", 39 IOUTB1 (hiz) "DACB current output. Full-scale with all bits of DB high.", 40 IOUTB2 (hiz) "DACB complementary current output. Full-scale with all bits of DB low.", 41 BIASJ_B "Full-scale output current bias for DACB"
part C pins: 15 DGND (power) "Digital ground", 16 DVDD (power) "Digital supply voltage", 21 DGND (power) "Digital ground", 22 DVDD (power) "Digital supply voltage", 37 SLEEP (in) "Sleep function control input: H - DAC in power-down mode, L - DAC in operating mode. Internal pulldown.", 38 AGND (power) "Analog ground", 42 GSET (in) "Gain-setting mode: H - 1 resistor, L - 2 resistors. Internal pullup.", 43 EXTIO (io) "Internal reference output (bypass with 0.1 uF to AGND) or external reference input", 47 AVDD (power) "Analog supply voltage", 48 MODE (in) "Mode Select: H - Dual Bus, L - Interleaved. Internal pullup."

## DAC5672AIPFBG4
designator U?
14-Bit 275 MSPS Dual Digital to Analog Converter, -40 to 85 degC, 48-pin QFP (PFB48), Green (RoHS & no Sb/Br); Manufacturer: Texas Instruments; PartNumber: DAC5672AIPFBG4; DAC Channels: 2; DNL(Max)(+/-LSB): 3; INL(Max)(+/-LSB): 4; Interface: Parallel CMOS; Power Consumption(Typ)(mW): 330; Resolution(Bits): 14; Settling Time(us): 0.02; SFDR(dB): 84; SNR(dB): 77; SubFamily: High Speed DAC (>10MSPS); DatasheetVersion: SLAS528A; PackageVersion: 4073176/B, 10/1996; PackageReference: PFB48; PackageDescription: 48-Pin Plastic Flat Pack, Body 7 x 7 mm, Pitch 0.5 mm; Supplier 1: Digi-Key; Supplier Part Number 1: DAC5672AIPFBG4-ND; Supplier 2: Mouser; Supplier Part Number 2: 595-DAC5672AIPFBG4; Eco-Plan: Green (RoHS & no Sb/Br); Mounting Technology: Surface Mount; Code_JEDEC: MS-026; ComponentLink1Description: Manufacturer URL; ComponentLink1URL: http://www.ti.com/; ComponentLink2Description: Datasheet; ComponentLink2URL: http://www.ti.com/general/docs/lit/getliterature.tsp?genericPartNumber=DAC5672A&fileType=pdf; ComponentLink3Description: Package Specification; ComponentLink3URL: http://www.ti.com/lit/ml/mtqf019a/mtqf019a.pdf
footprint TI-PFB48_N (QFP, 48-Leads, Body 7x7mm, Pitch 0.5mm, IPC Medium Density)
footprint TI-PFB48_L (QFP, 48-Leads, Body 7x7mm, Pitch 0.5mm, IPC High Density)
footprint TI-PFB48_M (QFP, 48-Leads, Body 7x7mm, Pitch 0.5mm, IPC Low Density)
part A pins: 1 DA13 (MSB) (in) "Data port A. DA13 is MSB and DA0 is LSB. Internal pulldown.", 2 DA12 (in) "Data port A. DA13 is MSB and DA0 is LSB. Internal pulldown.", 3 DA11 (in) "Data port A. DA13 is MSB and DA0 is LSB. Internal pulldown.", 4 DA10 (in) "Data port A. DA13 is MSB and DA0 is LSB. Internal pulldown.", 5 DA9 (in) "Data port A. DA13 is MSB and DA0 is LSB. Internal pulldown.", 6 DA8 (in) "Data port A. DA13 is MSB and DA0 is LSB. Internal pulldown.", 7 DA7 (in) "Data port A. DA13 is MSB and DA0 is LSB. Internal pulldown.", 8 DA6 (in) "Data port A. DA13 is MSB and DA0 is LSB. Internal pulldown.", 9 DA5 (in) "Data port A. DA13 is MSB and DA0 is LSB. Internal pulldown.", 10 DA4 (in) "Data port A. DA13 is MSB and DA0 is LSB. Internal pulldown.", 11 DA3 (in) "Data port A. DA13 is MSB and DA0 is LSB. Internal pulldown.", 12 DA2 (in) "Data port A. DA13 is MSB and DA0 is LSB. Internal pulldown.", 13 DA1 (in) "Data port A. DA13 is MSB and DA0 is LSB. Internal pulldown.", 14 DA0 (LSB) (in) "Data port A. DA13 is MSB and DA0 is LSB. Internal pulldown.", 17 WRTA/WRTIQ (in) "Input write signal for PORT A (WRTIQ in interleaving mode)", 18 CLKA/CLKIQ (in) "Clock input for DACA, CLKIQ in interleaved mode", 44 BIASJ_A "Full-scale output current bias for DACA", 45 IOUTA2 (hiz) "DACA complementary current output. Full-scale with all bits of DA low.", 46 IOUTA1 (hiz) "DACA current output. Full-scale with all bits of DA high."
part B pins: 19 CLKB/RESETIQ (in) "Clock input for DACB, RESETIQ in interleaved mode", 20 WRTB/SELECTIQ (in) "Input write signal for PORT B (SELECTIQ in interleaving mode)", 23 DB13 (MSB) (in) "Data port B. DB13 is MSB and DB0 is LSB. Internal pulldown.", 24 DB12 (in) "Data port B. DB13 is MSB and DB0 is LSB. Internal pulldown.", 25 DB11 (in) "Data port B. DB13 is MSB and DB0 is LSB. Internal pulldown.", 26 DB10 (in) "Data port B. DB13 is MSB and DB0 is LSB. Internal pulldown.", 27 DB9 (in) "Data port B. DB13 is MSB and DB0 is LSB. Internal pulldown.", 28 DB8 (in) "Data port B. DB13 is MSB and DB0 is LSB. Internal pulldown.", 29 DB7 (in) "Data port B. DB13 is MSB and DB0 is LSB. Internal pulldown.", 30 DB6 (in) "Data port B. DB13 is MSB and DB0 is LSB. Internal pulldown.", 31 DB5 (in) "Data port B. DB13 is MSB and DB0 is LSB. Internal pulldown.", 32 DB4 (in) "Data port B. DB13 is MSB and DB0 is LSB. Internal pulldown.", 33 DB3 (in) "Data port B. DB13 is MSB and DB0 is LSB. Internal pulldown.", 34 DB2 (in) "Data port B. DB13 is MSB and DB0 is LSB. Internal pulldown.", 35 DB1 (in) "Data port B. DB13 is MSB and DB0 is LSB. Internal pulldown.", 36 DB0 (LSB) (in) "Data port B. DB13 is MSB and DB0 is LSB. Internal pulldown.", 39 IOUTB1 (hiz) "DACB current output. Full-scale with all bits of DB high.", 40 IOUTB2 (hiz) "DACB complementary current output. Full-scale with all bits of DB low.", 41 BIASJ_B "Full-scale output current bias for DACB"
part C pins: 15 DGND (power) "Digital ground", 16 DVDD (power) "Digital supply voltage", 21 DGND (power) "Digital ground", 22 DVDD (power) "Digital supply voltage", 37 SLEEP (in) "Sleep function control input: H - DAC in power-down mode, L - DAC in operating mode. Internal pulldown.", 38 AGND (power) "Analog ground", 42 GSET (in) "Gain-setting mode: H - 1 resistor, L - 2 resistors. Internal pullup.", 43 EXTIO (io) "Internal reference output (bypass with 0.1 uF to AGND) or external reference input", 47 AVDD (power) "Analog supply voltage", 48 MODE (in) "Mode Select: H - Dual Bus, L - Interleaved. Internal pullup."

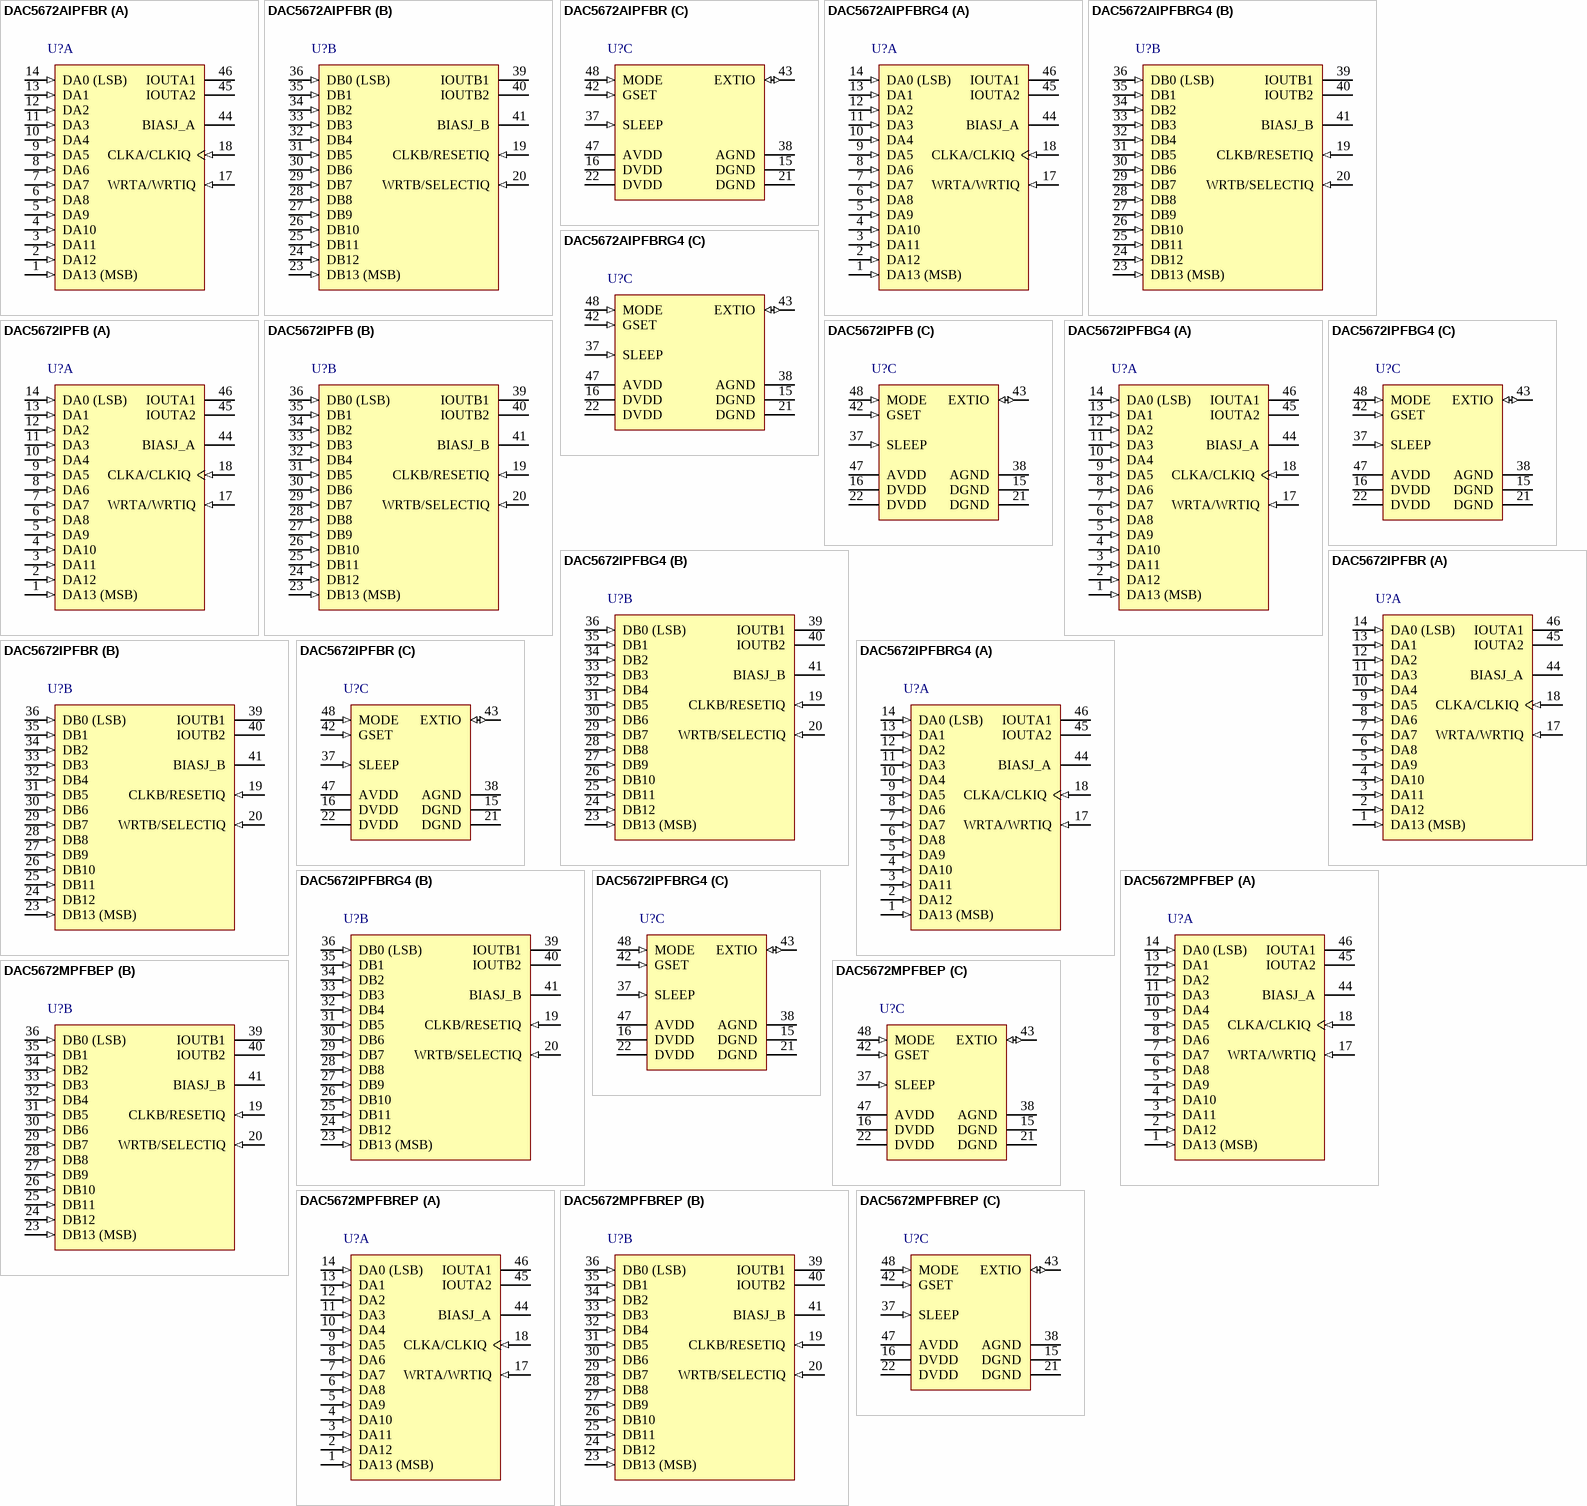
[diagram p17: symbols DAC5672AIPFBR to DAC5672MPFBREP]

## DAC5672AIPFBR
designator U?
14-Bit 275 MSPS Dual Digital to Analog Converter, -40 to 85 degC, 48-pin QFP (PFB48), Green (RoHS & no Sb/Br); Manufacturer: Texas Instruments; PartNumber: DAC5672AIPFBR; DAC Channels: 2; DNL(Max)(+/-LSB): 3; INL(Max)(+/-LSB): 4; Interface: Parallel CMOS; Power Consumption(Typ)(mW): 330; Resolution(Bits): 14; Settling Time(us): 0.02; SFDR(dB): 84; SNR(dB): 77; SubFamily: High Speed DAC (>10MSPS); DatasheetVersion: SLAS528A; PackageVersion: 4073176/B, 10/1996; PackageReference: PFB48; PackageDescription: 48-Pin Plastic Flat Pack, Body 7 x 7 mm, Pitch 0.5 mm; Supplier 1: Digi-Key; Supplier Part Number 1: DAC5672AIPFBR-ND; Supplier 2: Newark; Supplier Part Number 2: 58M0324; Supplier 3: Mouser; Supplier Part Number 3: 595-DAC5672AIPFBR; Eco-Plan: Green (RoHS & no Sb/Br); Mounting Technology: Surface Mount; Code_JEDEC: MS-026; ComponentLink1Description: Manufacturer URL; ComponentLink1URL: http://www.ti.com/; ComponentLink2Description: Datasheet; ComponentLink2URL: http://www.ti.com/general/docs/lit/getliterature.tsp?genericPartNumber=DAC5672A&fileType=pdf; ComponentLink3Description: Package Specification; ComponentLink3URL: http://www.ti.com/lit/ml/mtqf019a/mtqf019a.pdf
footprint TI-PFB48_N (QFP, 48-Leads, Body 7x7mm, Pitch 0.5mm, IPC Medium Density)
footprint TI-PFB48_L (QFP, 48-Leads, Body 7x7mm, Pitch 0.5mm, IPC High Density)
footprint TI-PFB48_M (QFP, 48-Leads, Body 7x7mm, Pitch 0.5mm, IPC Low Density)
part A pins: 1 DA13 (MSB) (in) "Data port A. DA13 is MSB and DA0 is LSB. Internal pulldown.", 2 DA12 (in) "Data port A. DA13 is MSB and DA0 is LSB. Internal pulldown.", 3 DA11 (in) "Data port A. DA13 is MSB and DA0 is LSB. Internal pulldown.", 4 DA10 (in) "Data port A. DA13 is MSB and DA0 is LSB. Internal pulldown.", 5 DA9 (in) "Data port A. DA13 is MSB and DA0 is LSB. Internal pulldown.", 6 DA8 (in) "Data port A. DA13 is MSB and DA0 is LSB. Internal pulldown.", 7 DA7 (in) "Data port A. DA13 is MSB and DA0 is LSB. Internal pulldown.", 8 DA6 (in) "Data port A. DA13 is MSB and DA0 is LSB. Internal pulldown.", 9 DA5 (in) "Data port A. DA13 is MSB and DA0 is LSB. Internal pulldown.", 10 DA4 (in) "Data port A. DA13 is MSB and DA0 is LSB. Internal pulldown.", 11 DA3 (in) "Data port A. DA13 is MSB and DA0 is LSB. Internal pulldown.", 12 DA2 (in) "Data port A. DA13 is MSB and DA0 is LSB. Internal pulldown.", 13 DA1 (in) "Data port A. DA13 is MSB and DA0 is LSB. Internal pulldown.", 14 DA0 (LSB) (in) "Data port A. DA13 is MSB and DA0 is LSB. Internal pulldown.", 17 WRTA/WRTIQ (in) "Input write signal for PORT A (WRTIQ in interleaving mode)", 18 CLKA/CLKIQ (in) "Clock input for DACA, CLKIQ in interleaved mode", 44 BIASJ_A "Full-scale output current bias for DACA", 45 IOUTA2 (hiz) "DACA complementary current output. Full-scale with all bits of DA low.", 46 IOUTA1 (hiz) "DACA current output. Full-scale with all bits of DA high."
part B pins: 19 CLKB/RESETIQ (in) "Clock input for DACB, RESETIQ in interleaved mode", 20 WRTB/SELECTIQ (in) "Input write signal for PORT B (SELECTIQ in interleaving mode)", 23 DB13 (MSB) (in) "Data port B. DB13 is MSB and DB0 is LSB. Internal pulldown.", 24 DB12 (in) "Data port B. DB13 is MSB and DB0 is LSB. Internal pulldown.", 25 DB11 (in) "Data port B. DB13 is MSB and DB0 is LSB. Internal pulldown.", 26 DB10 (in) "Data port B. DB13 is MSB and DB0 is LSB. Internal pulldown.", 27 DB9 (in) "Data port B. DB13 is MSB and DB0 is LSB. Internal pulldown.", 28 DB8 (in) "Data port B. DB13 is MSB and DB0 is LSB. Internal pulldown.", 29 DB7 (in) "Data port B. DB13 is MSB and DB0 is LSB. Internal pulldown.", 30 DB6 (in) "Data port B. DB13 is MSB and DB0 is LSB. Internal pulldown.", 31 DB5 (in) "Data port B. DB13 is MSB and DB0 is LSB. Internal pulldown.", 32 DB4 (in) "Data port B. DB13 is MSB and DB0 is LSB. Internal pulldown.", 33 DB3 (in) "Data port B. DB13 is MSB and DB0 is LSB. Internal pulldown.", 34 DB2 (in) "Data port B. DB13 is MSB and DB0 is LSB. Internal pulldown.", 35 DB1 (in) "Data port B. DB13 is MSB and DB0 is LSB. Internal pulldown.", 36 DB0 (LSB) (in) "Data port B. DB13 is MSB and DB0 is LSB. Internal pulldown.", 39 IOUTB1 (hiz) "DACB current output. Full-scale with all bits of DB high.", 40 IOUTB2 (hiz) "DACB complementary current output. Full-scale with all bits of DB low.", 41 BIASJ_B "Full-scale output current bias for DACB"
part C pins: 15 DGND (power) "Digital ground", 16 DVDD (power) "Digital supply voltage", 21 DGND (power) "Digital ground", 22 DVDD (power) "Digital supply voltage", 37 SLEEP (in) "Sleep function control input: H - DAC in power-down mode, L - DAC in operating mode. Internal pulldown.", 38 AGND (power) "Analog ground", 42 GSET (in) "Gain-setting mode: H - 1 resistor, L - 2 resistors. Internal pullup.", 43 EXTIO (io) "Internal reference output (bypass with 0.1 uF to AGND) or external reference input", 47 AVDD (power) "Analog supply voltage", 48 MODE (in) "Mode Select: H - Dual Bus, L - Interleaved. Internal pullup."

## DAC5672AIPFBRG4
designator U?
14-Bit 275 MSPS Dual Digital to Analog Converter, -40 to 85 degC, 48-pin QFP (PFB48), Green (RoHS & no Sb/Br); Manufacturer: Texas Instruments; PartNumber: DAC5672AIPFBRG4; DAC Channels: 2; DNL(Max)(+/-LSB): 3; INL(Max)(+/-LSB): 4; Interface: Parallel CMOS; Power Consumption(Typ)(mW): 330; Resolution(Bits): 14; Settling Time(us): 0.02; SFDR(dB): 84; SNR(dB): 77; SubFamily: High Speed DAC (>10MSPS); DatasheetVersion: SLAS528A; PackageVersion: 4073176/B, 10/1996; PackageReference: PFB48; PackageDescription: 48-Pin Plastic Flat Pack, Body 7 x 7 mm, Pitch 0.5 mm; Supplier 1: Digi-Key; Supplier Part Number 1: DAC5672AIPFBRG4-ND; Supplier 2: Mouser; Supplier Part Number 2: 595-DAC5672AIPFBRG4; Eco-Plan: Green (RoHS & no Sb/Br); Mounting Technology: Surface Mount; Code_JEDEC: MS-026; ComponentLink1Description: Manufacturer URL; ComponentLink1URL: http://www.ti.com/; ComponentLink2Description: Datasheet; ComponentLink2URL: http://www.ti.com/general/docs/lit/getliterature.tsp?genericPartNumber=DAC5672A&fileType=pdf; ComponentLink3Description: Package Specification; ComponentLink3URL: http://www.ti.com/lit/ml/mtqf019a/mtqf019a.pdf
footprint TI-PFB48_N (QFP, 48-Leads, Body 7x7mm, Pitch 0.5mm, IPC Medium Density)
footprint TI-PFB48_L (QFP, 48-Leads, Body 7x7mm, Pitch 0.5mm, IPC High Density)
footprint TI-PFB48_M (QFP, 48-Leads, Body 7x7mm, Pitch 0.5mm, IPC Low Density)
part A pins: 1 DA13 (MSB) (in) "Data port A. DA13 is MSB and DA0 is LSB. Internal pulldown.", 2 DA12 (in) "Data port A. DA13 is MSB and DA0 is LSB. Internal pulldown.", 3 DA11 (in) "Data port A. DA13 is MSB and DA0 is LSB. Internal pulldown.", 4 DA10 (in) "Data port A. DA13 is MSB and DA0 is LSB. Internal pulldown.", 5 DA9 (in) "Data port A. DA13 is MSB and DA0 is LSB. Internal pulldown.", 6 DA8 (in) "Data port A. DA13 is MSB and DA0 is LSB. Internal pulldown.", 7 DA7 (in) "Data port A. DA13 is MSB and DA0 is LSB. Internal pulldown.", 8 DA6 (in) "Data port A. DA13 is MSB and DA0 is LSB. Internal pulldown.", 9 DA5 (in) "Data port A. DA13 is MSB and DA0 is LSB. Internal pulldown.", 10 DA4 (in) "Data port A. DA13 is MSB and DA0 is LSB. Internal pulldown.", 11 DA3 (in) "Data port A. DA13 is MSB and DA0 is LSB. Internal pulldown.", 12 DA2 (in) "Data port A. DA13 is MSB and DA0 is LSB. Internal pulldown.", 13 DA1 (in) "Data port A. DA13 is MSB and DA0 is LSB. Internal pulldown.", 14 DA0 (LSB) (in) "Data port A. DA13 is MSB and DA0 is LSB. Internal pulldown.", 17 WRTA/WRTIQ (in) "Input write signal for PORT A (WRTIQ in interleaving mode)", 18 CLKA/CLKIQ (in) "Clock input for DACA, CLKIQ in interleaved mode", 44 BIASJ_A "Full-scale output current bias for DACA", 45 IOUTA2 (hiz) "DACA complementary current output. Full-scale with all bits of DA low.", 46 IOUTA1 (hiz) "DACA current output. Full-scale with all bits of DA high."
part B pins: 19 CLKB/RESETIQ (in) "Clock input for DACB, RESETIQ in interleaved mode", 20 WRTB/SELECTIQ (in) "Input write signal for PORT B (SELECTIQ in interleaving mode)", 23 DB13 (MSB) (in) "Data port B. DB13 is MSB and DB0 is LSB. Internal pulldown.", 24 DB12 (in) "Data port B. DB13 is MSB and DB0 is LSB. Internal pulldown.", 25 DB11 (in) "Data port B. DB13 is MSB and DB0 is LSB. Internal pulldown.", 26 DB10 (in) "Data port B. DB13 is MSB and DB0 is LSB. Internal pulldown.", 27 DB9 (in) "Data port B. DB13 is MSB and DB0 is LSB. Internal pulldown.", 28 DB8 (in) "Data port B. DB13 is MSB and DB0 is LSB. Internal pulldown.", 29 DB7 (in) "Data port B. DB13 is MSB and DB0 is LSB. Internal pulldown.", 30 DB6 (in) "Data port B. DB13 is MSB and DB0 is LSB. Internal pulldown.", 31 DB5 (in) "Data port B. DB13 is MSB and DB0 is LSB. Internal pulldown.", 32 DB4 (in) "Data port B. DB13 is MSB and DB0 is LSB. Internal pulldown.", 33 DB3 (in) "Data port B. DB13 is MSB and DB0 is LSB. Internal pulldown.", 34 DB2 (in) "Data port B. DB13 is MSB and DB0 is LSB. Internal pulldown.", 35 DB1 (in) "Data port B. DB13 is MSB and DB0 is LSB. Internal pulldown.", 36 DB0 (LSB) (in) "Data port B. DB13 is MSB and DB0 is LSB. Internal pulldown.", 39 IOUTB1 (hiz) "DACB current output. Full-scale with all bits of DB high.", 40 IOUTB2 (hiz) "DACB complementary current output. Full-scale with all bits of DB low.", 41 BIASJ_B "Full-scale output current bias for DACB"
part C pins: 15 DGND (power) "Digital ground", 16 DVDD (power) "Digital supply voltage", 21 DGND (power) "Digital ground", 22 DVDD (power) "Digital supply voltage", 37 SLEEP (in) "Sleep function control input: H - DAC in power-down mode, L - DAC in operating mode. Internal pulldown.", 38 AGND (power) "Analog ground", 42 GSET (in) "Gain-setting mode: H - 1 resistor, L - 2 resistors. Internal pullup.", 43 EXTIO (io) "Internal reference output (bypass with 0.1 uF to AGND) or external reference input", 47 AVDD (power) "Analog supply voltage", 48 MODE (in) "Mode Select: H - Dual Bus, L - Interleaved. Internal pullup."